# Altium schematic symbol library XGZP6897D.Schlib: 1 symbol
Pins are listed as number, name and electrical type; pins without a type are passive.

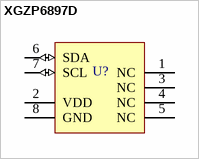
[diagram p0: symbol XGZP6897D]

## XGZP6897D
designator U?
Pressure Sensor Module,  -0.5~0.5Kpa
pins: 1 NC (hiz), 2 VDD (power), 3 NC (hiz), 4 NC (hiz), 5 NC (hiz), 6 SDA (io), 7 SCL (io), 8 GND (power)